# EAGLE library part 53375-0610 (library 53375-0610)
Molex MINI-LOCK Series, Series Number 53375, 2.5mm Pitch 6 Way 1 Row Straight PCB Header, Solder Termination, 3A <http://uk.rs-online.com/largeimages/W7206404-01.gif> Source: Datasheet <http://www.molex.com/webdocs/datasheets/pdf/en-us//0533750610_PCB_HEADERS.pdf>
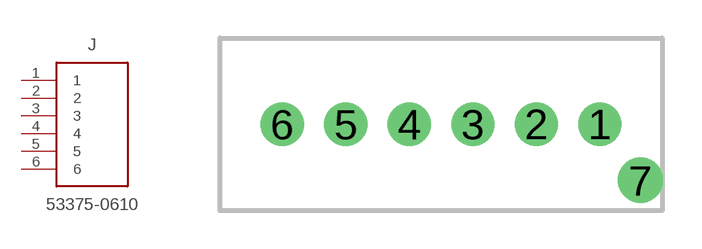
[diagram p0: symbol with the pads of 53375-0610; footprint 53375-0610]

Designator prefix J

## 53375-0610 (Description: Molex MINI-LOCK Series, Series Number 53375, 2.5mm Pitch 6 Way 1 Row Straight PCB Header, Solder Termination, 3A; Height: mm; Manufacturer_Name: Molex; Manufacturer_Part_Number: 53375-0610; RS_Part_Number: 7206413; Supplier_Name: RS)  [53375-0610]
1  1  pas
2  2  pas
3  3  pas
4  4  pas
5  5  pas
6  6  pas

## Footprint 53375-0610 (pad centres in mm)
53375-0610
drill 1.1 pad 1.7: 1 6.25,-3.4; 2 3.75,-3.4; 3 1.25,-3.4; 4 -1.25,-3.4; 5 -3.75,-3.4; 6 -6.25,-3.4
drill 1.2 pad 1.2: 7 7.85,-5.6